# Altium footprint library ROV_Voltage_Switch.PcbLib: 24 footprints (part 1 of 2)
Each footprint in its own frame and in the unit in brackets; x right, y up, seen from the top. Pads: shape width x height; smd on the part's side, far side on the other; paste and mask are expansions set on the pad; w line width, h text height; cw(c..) or ccw(c..) is an arc to the next point about the centre after c.
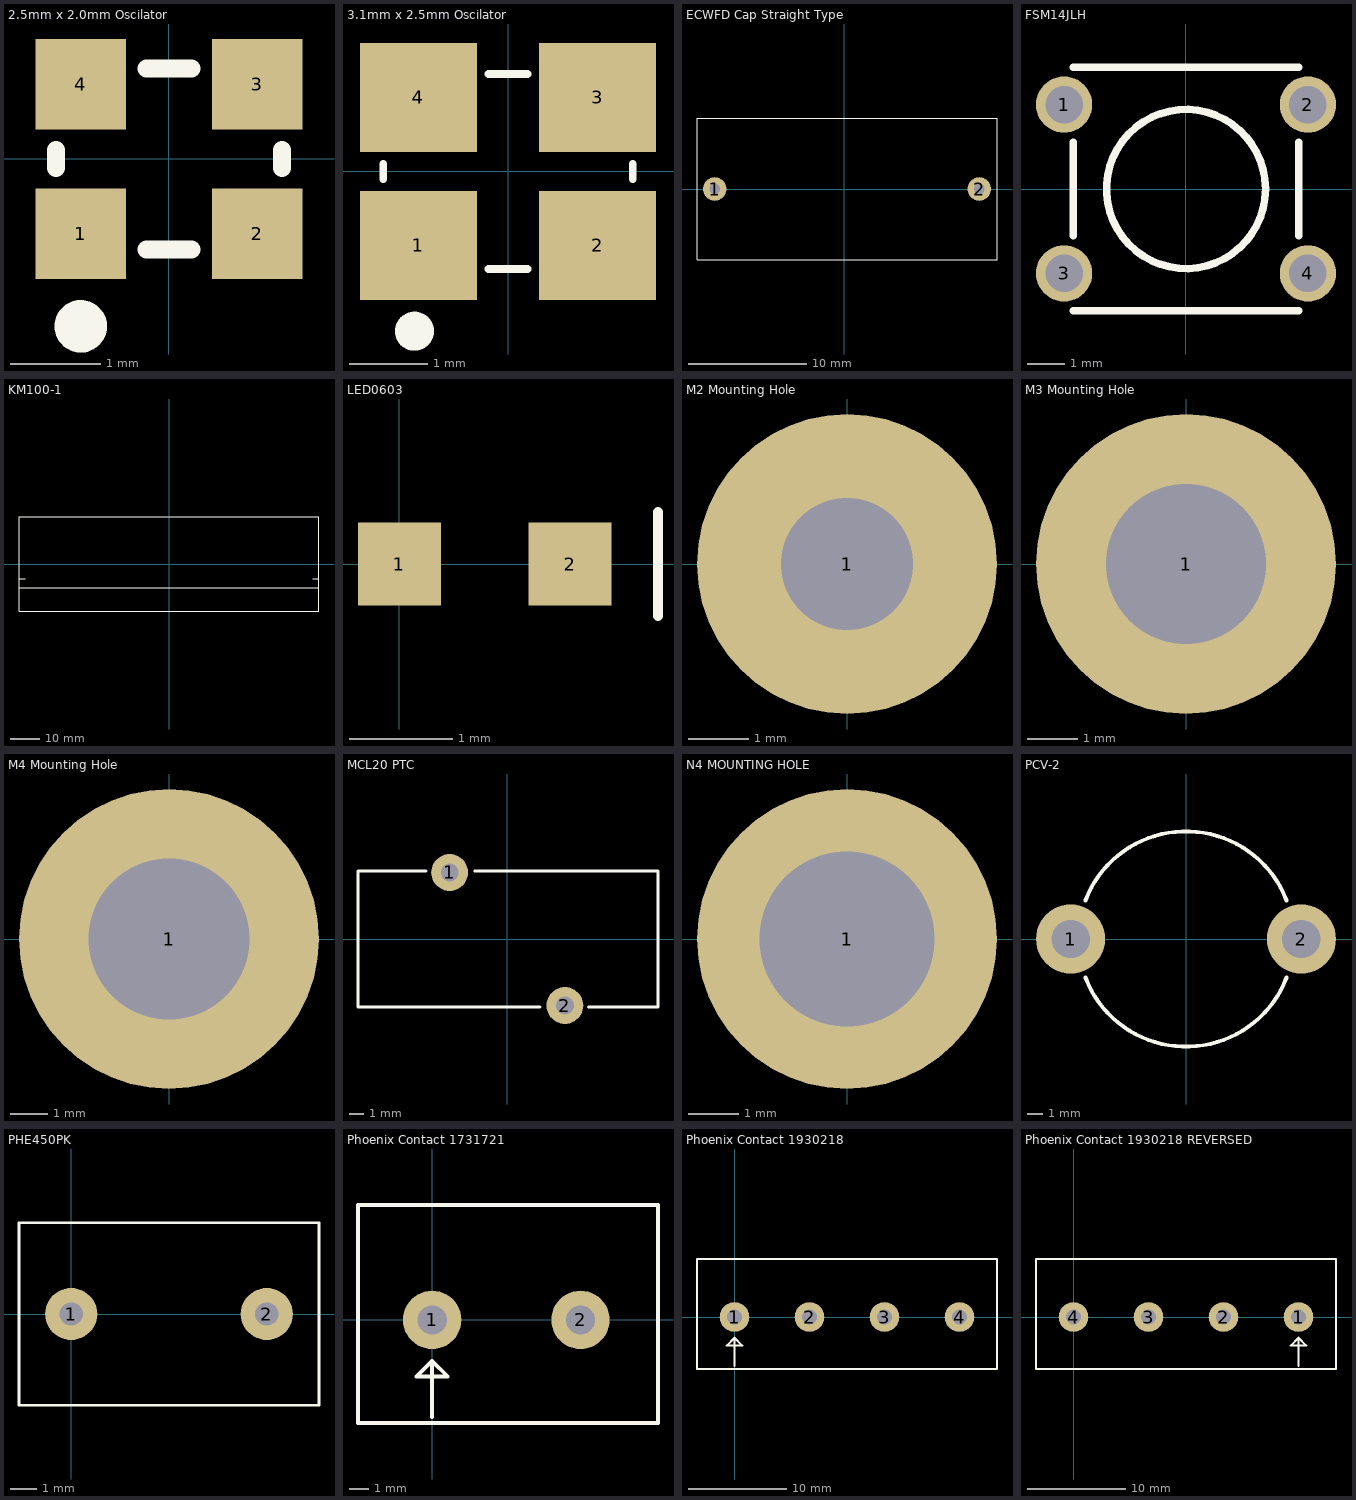
[diagram p0: the footprints below, top view; thin cyan lines are the x and y axes]

## 2.5mm x 2.0mm Oscilator [mm]
pads (4):
  rect 1x1 smd: 1(-0.975,-0.825) 2(0.975,-0.825) 3(0.975,0.825) 4(-0.975,0.825)
Top Overlay:
  circle w0.3: c-0.975,-1.85 r0.14
  lines w0.2: -1.25,-0.1 -1.25,0.1 ; -0.25,-1 0.25,-1 ; -0.25,1 0.25,1 ; 1.25,-0.1 1.25,0.1
3D body: height 0.6, standoff 0, extent -1.25,-1 1.25,1

## 3.1mm x 2.5mm Oscilator [mm]
pads (4):
  rect 1.5x1.4 smd: 1(-1.15,-0.95) 2(1.15,-0.95) 3(1.15,0.95) 4(-1.15,0.95)
Top Overlay:
  circle w0.3: c-1.2,-2.05 r0.1
  lines w0.1: -1.6,-0.1 -1.6,0.1 ; -0.25,-1.25 0.25,-1.25 ; -0.25,1.25 0.25,1.25 ; 1.6,-0.1 1.6,0.1
3D body: height 1, standoff 0, extent -1.6,-1.25 1.6,1.25

## ECWFD Cap Straight Type [mm]
pads (2):
  round 2 hole 0.9: 1(-11,0) 2(11.5,0)
Top Overlay:
  lines w0.1: -12.5,-6 13,-6 13,6 -12.5,6 -12.5,-6
3D body: height 16, standoff 0, extent -12,-5.5 12.5,5.5

## FSM14JLH [mm] "Tactile Switches 6MM HIGH TEMP TACT SWITCH"
pads (4):
  round 1.5 hole 1: 1(-3.25,2.25) 2(3.25,2.25) 3(-3.25,-2.25) 4(3.25,-2.25)
Top Overlay:
  circle w0.2: c0,0 r2.121
  lines w0.2: -3,-3.25 3,-3.25 ; -3,-1.25 -3,1.25 ; -3,3.25 3,3.25 ; 3,-1.25 3,1.25
3D body "c-2-1825910-6-c-3d.stp": height 13, standoff -3.51, extent -3.9,-2.995 3.9,2.995

## KM100-1 [mm]
Top Overlay:
  lines w0.2: -51,-8 51,-8 ; -51,-5 -48.8,-5 ; 48.8,-5 51,-5 ; -51,-16 -51,16 51,16 51,-16 -51,-16
3D body "KM100-1.stp": height 45.01, standoff 0.01, extent -50,-15 50,15

## LED0603 [mm]
pads (2):
  rect 0.8x0.8 smd: 1(0,0) 2(1.65,0)
Top Overlay:
  lines w0.1: 2.5,-0.5 2.5,0.5

## M2 Mounting Hole [mm]
pads (1):
  round 5 hole 2.2: 1(0,0)

## M3 Mounting Hole [mm]
pads (1):
  round 6 hole 3.2: 1(0,0)

## M4 Mounting Hole [mm]
pads (1):
  round 8 hole 4.3: 1(0,0)

## MCL20 PTC [mm]
pads (2):
  round 2.5 hole 1.2: 1(-3.9,4.5) 2(3.9,-4.5)
Top Overlay:
  lines w0.2: -5.5,4.6 -10.1,4.6 -10.1,-4.6 2.2,-4.6 ; -2.2,4.6 10.2,4.6 10.2,-4.6 5.5,-4.6
3D body: height 25, standoff 5, extent -10,-4.5 10,4.5

## N4 MOUNTING HOLE [mm]
pads (1):
  round 6 hole 3.5: 1(0,0)
3D body: height -0.19, standoff -0.2, extent -0.01,-0.01 0.01,0.01

## PCV-2 [mm]
pads (2):
  round 4.5 hole 2.5: 1(-7.5,0) 2(7.5,0)
Top Overlay:
  lines w0.254: -6.533,-2.513 ccw(c0,0) 6.533,-2.513 ; -6.533,2.513 cw(c0,0) 6.533,2.513
3D body: height 38, standoff 0, extent -7,-7 7,7

## PHE450PK [mm]
pads (2):
  round 2 hole 0.9: 1(0,0) 2(7.5,0)
Top Overlay:
  lines w0.1: -2,-3.5 9.5,-3.5 9.5,3.5 -2,3.5 -2,-3.5
3D body: height 12, standoff 0, extent -1.5,-3 9,3

## Phoenix Contact 1731721 [mm]
pads (2):
  round 3 hole 1.5: 1(0,0) 2(7.62,0)
Top Overlay:
  lines w0.2: 0,-5 0,-2.1 ; 0,-2.1 -0.8,-2.9 0.8,-2.9 0,-2.1 ; -3.81,5.91 11.6,5.91 11.6,-5.3 -3.8,-5.3 -3.8,5.91 -3.81,5.91
3D body "pxc_1731721_05_GMKDS-3-2-7-62_3D.stp": height 18.31, standoff -4.99, extent -4.405,-5.5 11.405,5.7

## Phoenix Contact 1930218 [mm]
pads (4):
  round 3 hole 1.5: 1(0,0) 2(7.62,0) 3(15.24,0) 4(22.86,0)
Top Overlay:
  lines w0.2: 0,-5 0,-2.1 ; 0,-2.1 0.8,-2.9 -0.8,-2.9 0,-2.1 ; -3.81,5.91 -3.8,5.91 -3.8,-5.3 26.67,-5.3 26.67,5.91 -3.81,5.91
3D body "pxc_1731721_05_GMKDS-3-2-7-62_3D.stp": height 18.31, standoff -4.99, extent -4.405,-5.5 11.405,5.7
3D body "pxc_1731721_05_GMKDS-3-2-7-62_3D.stp": height 18.31, standoff -4.99, extent 10.835,-5.5 26.645,5.7

## Phoenix Contact 1930218 REVERSED [mm]
pads (4):
  round 3 hole 1.5: 1(22.86,0) 2(15.24,0) 3(7.62,0) 4(0,0)
Top Overlay:
  lines w0.2: 22.86,-5 22.86,-2.1 ; 22.86,-2.1 23.66,-2.9 22.06,-2.9 22.86,-2.1 ; -3.81,5.91 26.67,5.91 26.67,-5.3 -3.8,-5.3 -3.8,5.91 -3.81,5.91
3D body "pxc_1731721_05_GMKDS-3-2-7-62_3D.stp": height 18.31, standoff -4.99, extent 10.835,-5.5 26.645,5.7
3D body "pxc_1731721_05_GMKDS-3-2-7-62_3D.stp": height 18.31, standoff -4.99, extent -4.405,-5.5 11.405,5.7